# Altium integrated library ST RF and IF Tuner Circuit.IntLib: 1 symbol
Pins are listed as number, name and electrical type; pins without a type are passive.

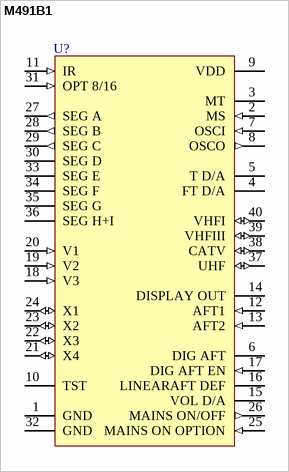
[diagram p0: symbol M491B1]

## M491B1
designator U?
Single-Chip Voltage Synthesis Tuning System with 1 Analog Control; Published: 24-Aug-2001; LatestRevisionDate: 6-Jun-2005; LatestRevisionNote: Stylized 3D Model Added.; DatasheetDocument: Sep-1992; PackageDocument: Jul-1999; PackageReference: PDIP40B; Publisher: Altium Limited; ComponentLink1Description: Manufacturer Link; ComponentLink1URL: http://www.st.com/
footprint PDIP40B (DIP; 40 Leads; Row Spacing 15.24 mm; Pitch 2.54 mm)
3D model PDIP40B (DIP; 40 Leads; Row Spacing 15.24 mm; Pitch 2.54 mm)
pins: 1 GND (power), 2 MS (in), 3 MT (oc), 4 FT D/A (oc), 5 T D/A (oc), 6 DIG AFT (oc), 7 OSCI (in), 8 OSCO (out), 9 VDD (power), 10 TST, 11 IR (in), 12 AFT1 (in), 13 AFT2 (in), 14 DISPLAY OUT (oc), 15 VOL D/A (oc), 16 LINEARAFT DEF (oc), 17 DIG AFT EN (in), 18 V3 (in), 19 V2 (in), 20 V1 (in), 21 X4 (io), 22 X3 (io), 23 X2 (io), 24 X1 (io), 25 MAINS ON OPTION (in), 26 MAINS ON/OFF (out), 27 SEG A (out), 28 SEG B (out), 29 SEG C (out), 30 SEG D (oc), 31 OPT 8/16 (in), 32 GND (power), 33 SEG E (oc), 34 SEG F (oc), 35 SEG G (oc), 36 SEG H+I (oc), 37 UHF (io), 38 CATV (io), 39 VHFIII (io), 40 VHFI (io)